# EAGLE library part SCPQ-10.5 (library minicircuits1)
Power splitter 2 way-90° Internal load dissipation: 0.125 W Matched power rating 0.5 W Non-hermetic Frequency: 9 MHz - 11 MHz Max phase unbalance: 3° Max amplitude unbalance 1.2 dB
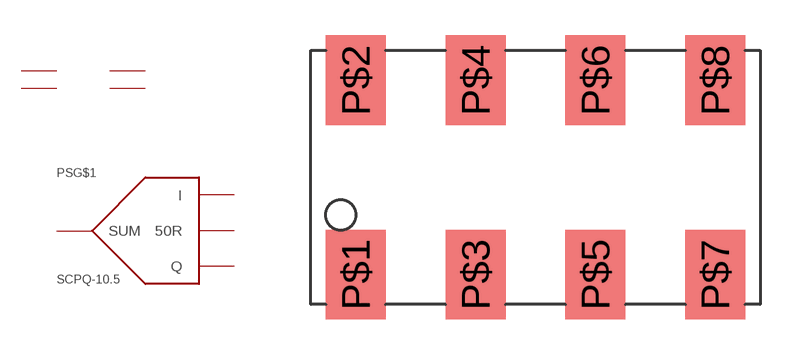
[diagram p5: symbol with the pads of YY101; footprint YY101]

Designator prefix PS; gates G$1=POWER_SPLITTER-90° G$2=GND G$3=GND G$4=GND G$5=GND

## SCPQ-10.5  [YY101]
P$1  G$1:SUM
P$2  G$1:I
P$3  G$2:GND  pwr
P$4  G$3:GND  pwr
P$5  G$1:Q
P$6  G$1:50R
P$7  G$4:GND  pwr
P$8  G$5:GND  pwr

## Footprint YY101 (pad centres in mm)
smd 2.54 x 3.81: P$1 1.27,1.905; P$2 1.27,10.16; P$3 6.35,1.905; P$4 6.35,10.16; P$5 11.43,1.905; P$6 11.43,10.16; P$7 16.51,1.905; P$8 16.51,10.16